# Altium footprint library DF13A-2P-1.25H(21).PcbLib: 1 footprints
Each footprint in its own frame and in the unit in brackets; x right, y up, seen from the top. Pads: shape width x height; smd on the part's side, far side on the other; paste and mask are expansions set on the pad; w line width, h text height; cw(c..) or ccw(c..) is an arc to the next point about the centre after c.
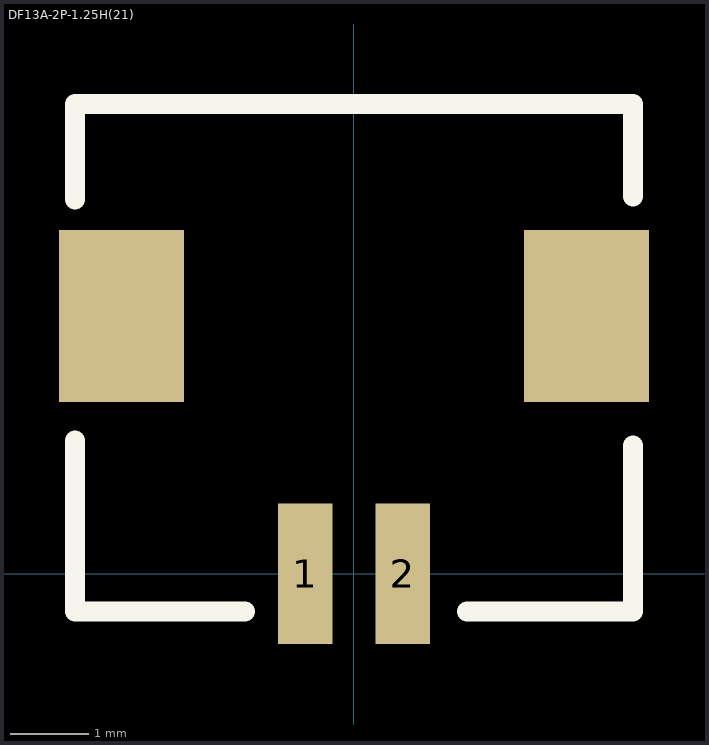
[diagram p0: the footprint, top view; thin cyan lines are the x and y axes]

## DF13A-2P-1.25H(21) [mm] "2 pos, 1.25mm pitch DF13 connector (H125743CT-ND)"
height 3.6
pads (4):
  rect 0.7x1.8 smd: 1(-0.625,0) 2(0.625,0)
  rect 1.6x2.2 smd: ""(-2.975,3.3) ""(2.975,3.3)
Top Overlay:
  lines w0.254: -3.575,1.708 -3.575,-0.483 -1.397,-0.483 ; -3.575,4.794 -3.575,6.017 3.575,6.017 3.575,4.832 ; 1.448,-0.483 3.575,-0.483 3.575,1.645
3D body "DF13A-2P-1.25H.stp": height 3.58, standoff -0.02, extent -3.575,-0.483 3.575,6.017
3D body "DF13-2S-1.25C.stp": height 3.46, standoff 0.26, extent -2.05,2.794 2.1,6.794